# Altium footprint library SOT23-123.PcbLib: 1 footprints
Each footprint in its own frame and in the unit in brackets; x right, y up, seen from the top. Pads: shape width x height; smd on the part's side, far side on the other; paste and mask are expansions set on the pad; w line width, h text height; cw(c..) or ccw(c..) is an arc to the next point about the centre after c.
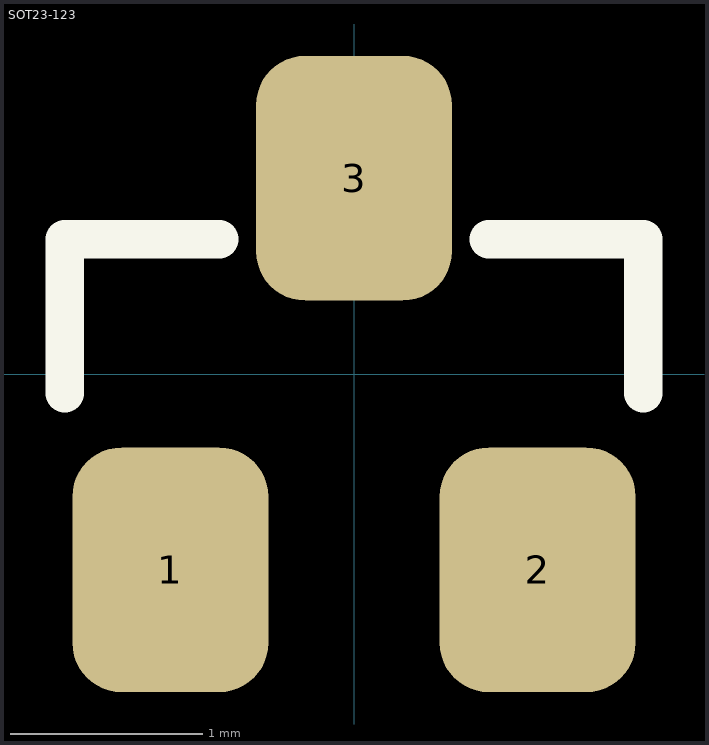
[diagram p0: the footprint, top view; thin cyan lines are the x and y axes]

## SOT23-123 [mil]
height 47.24
pads (3):
  rrect50% 40x50 smd: 1(-37.5,-40) 2(37.5,-40) 3(0,40)
Top Overlay:
  lines w7.87: -59.06,-3.94 -59.06,27.56 -27.56,27.56 ; 27.56,27.56 59.06,27.56 59.06,-3.94
3D body "User Library-sot23-1.STEP": height 39.37, standoff 0, extent -57.47,-46.07 57.49,46.05